# EAGLE library part TSB572IST (library ruark2)
General Purpose Amplifier 2 Circuit Rail-to-Rail 8-MiniSO
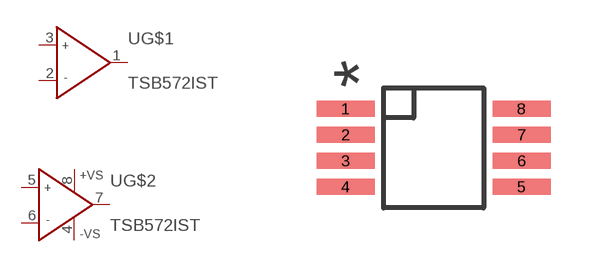
[diagram p92: symbol with the pads of MSOP-8; footprint MSOP-8]

Designator prefix U; gates G$1=OP G$2=OP+-

## TSB572IST (PARTNO: 497-16366-1-ND)  [MSOP-8]
1  G$1:OUT  out
2  G$1:IN-  in
3  G$1:IN+  in
4  G$2:-VS  in
5  G$2:IN+  in
6  G$2:IN-  in
7  G$2:OUT  out
8  G$2:+VS  in

## Footprint MSOP-8 (pad centres in mm)
smd 1.45 x 0.4: 1 -2.2,0.975; 2 -2.2,0.325; 3 -2.2,-0.325; 4 -2.2,-0.975; 5 2.2,-0.975; 6 2.2,-0.325; 7 2.2,0.325; 8 2.2,0.975